# EAGLE library part TERM_8.25_8P (library os1)
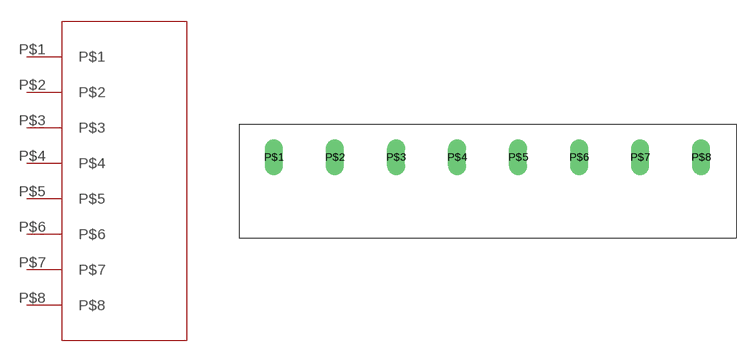
[diagram p2: symbol with the pads of TERMINAL_8.25MM_8P; footprint TERMINAL_8.25MM_8P]

Designator prefix -

## TERM_8.25_8P  [TERMINAL_8.25MM_8P]
P$1  P$1
P$2  P$2
P$3  P$3
P$4  P$4
P$5  P$5
P$6  P$6
P$7  P$7
P$8  P$8

## Footprint TERMINAL_8.25MM_8P (pad centres in mm)
drill 1.6 long: P$1 0,0; P$2 8.25,0; P$3 16.5,0; P$4 24.75,0; P$5 33,0; P$6 41.25,0; P$7 49.5,0; P$8 57.75,0